# EAGLE library part DS3231_AT24C32_RTC_MODULE (library miller)
DS3231 Real Time Clock with AT24C32 memory module Generic DS3231 RTC boards available from Amazon/Ebay, that come with a AT24C32 memory chip added on. These typically come with a right-angle 1x6 header installed, so that the RTC board stands upright off the main PCB it is being installed onto.
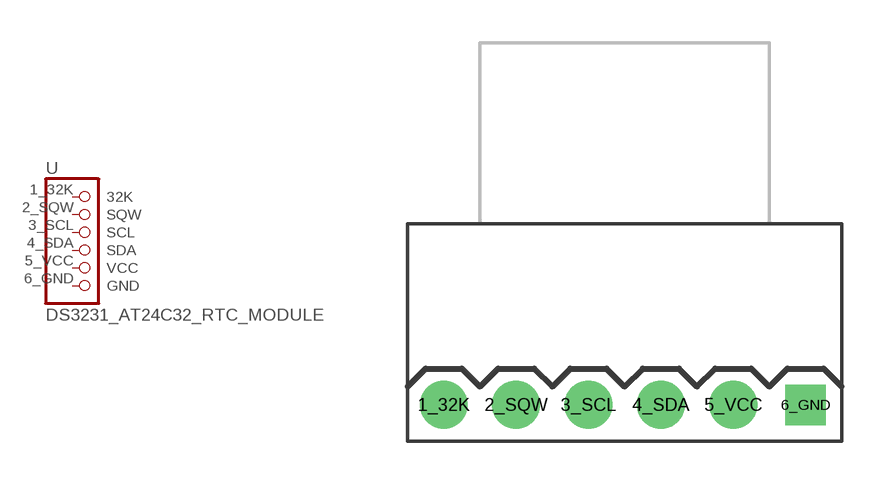
[diagram p17: symbol with the pads of DS3231_AT24C32_RTC_MODULE; footprint DS3231_AT24C32_RTC_MODULE]

Designator prefix -

## DS3231_AT24C32_RTC_MODULEDS  [DS3231_AT24C32_RTC_MODULE]
1_32K  32K  out
2_SQW  SQW  out
3_SCL  SCL  in
4_SDA  SDA
5_VCC  VCC  pwr
6_GND  GND  pwr

## Footprint DS3231_AT24C32_RTC_MODULE (pad centres in mm)
DS3231 Real Time Clock with AT24C32 module Footprint for DS3231 clock modules available from Amazon/Ebay. Typically come on with right-angle header pins so that the board stands upright off the main pcb. These modules are typically rectangular in outline, on blue pcb, and have a AT24C32 memory chip in addtion to the DS3231. They break out the pins 32K, SQW, SCL, SDA, VCC and GND on a right-angle 1x6 0.1" header. The tDimension layer shows the approximate stickout of the battery, but the battery sits at least 0.3" above the PCB, so it will clear most low-lying chips.
drill 0.9 pad 1.676: 1_32K -5.08,0; 2_SQW -2.54,0; 3_SCL 0,0; 4_SDA 2.54,0; 5_VCC 5.08,0
drill 0.9 pad 1.422 square: 6_GND 7.62,0